# EAGLE library part MT29F1G01 (library micron)
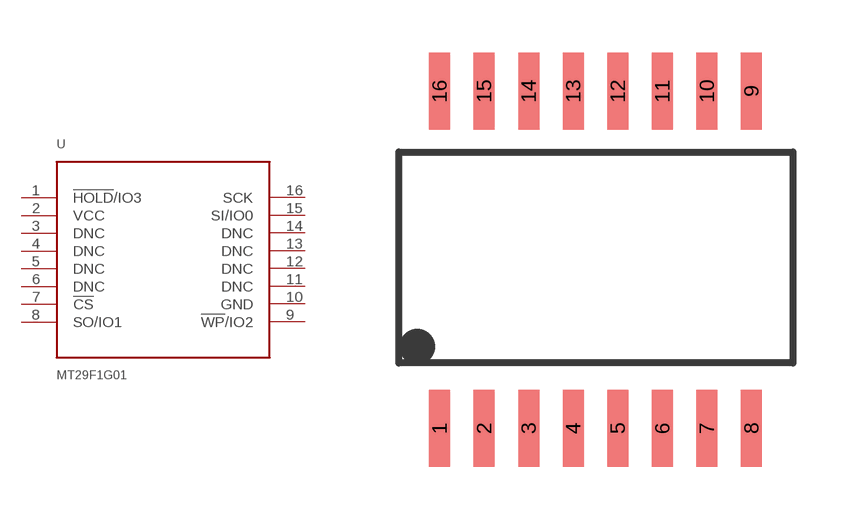
[diagram p1: symbol with the pads of SOP16; footprint SOP16]

Designator prefix U

## MT29F1G01  [SOP16]
1  !HOLD!/IO3
2  VCC  pwr
3  DNC  nc
4  DNC  nc
5  DNC  nc
6  DNC  nc
7  !CS
8  SO/IO1
9  !WP!/IO2
10  GND  pwr
11  DNC  nc
12  DNC  nc
13  DNC  nc
14  DNC  nc
15  SI/IO0
16  SCK  in

## Footprint SOP16 (pad centres in mm)
SMALL OUTLINE PACKAGE
smd 0.6 x 2.2: 1 -4.445,-4.87; 2 -3.175,-4.87; 3 -1.905,-4.87; 4 -0.635,-4.87; 5 0.635,-4.87; 6 1.905,-4.87; 7 3.175,-4.87; 8 4.445,-4.87; 9 4.445,4.743; 10 3.175,4.743; 11 1.905,4.743; 12 0.635,4.743; 13 -0.635,4.743; 14 -1.905,4.743; 15 -3.175,4.743; 16 -4.445,4.743